# Altium schematic symbol library STM32_Watch.SCHLIB: 53 symbols
Pins are listed as number, name and electrical type; pins without a type are passive.

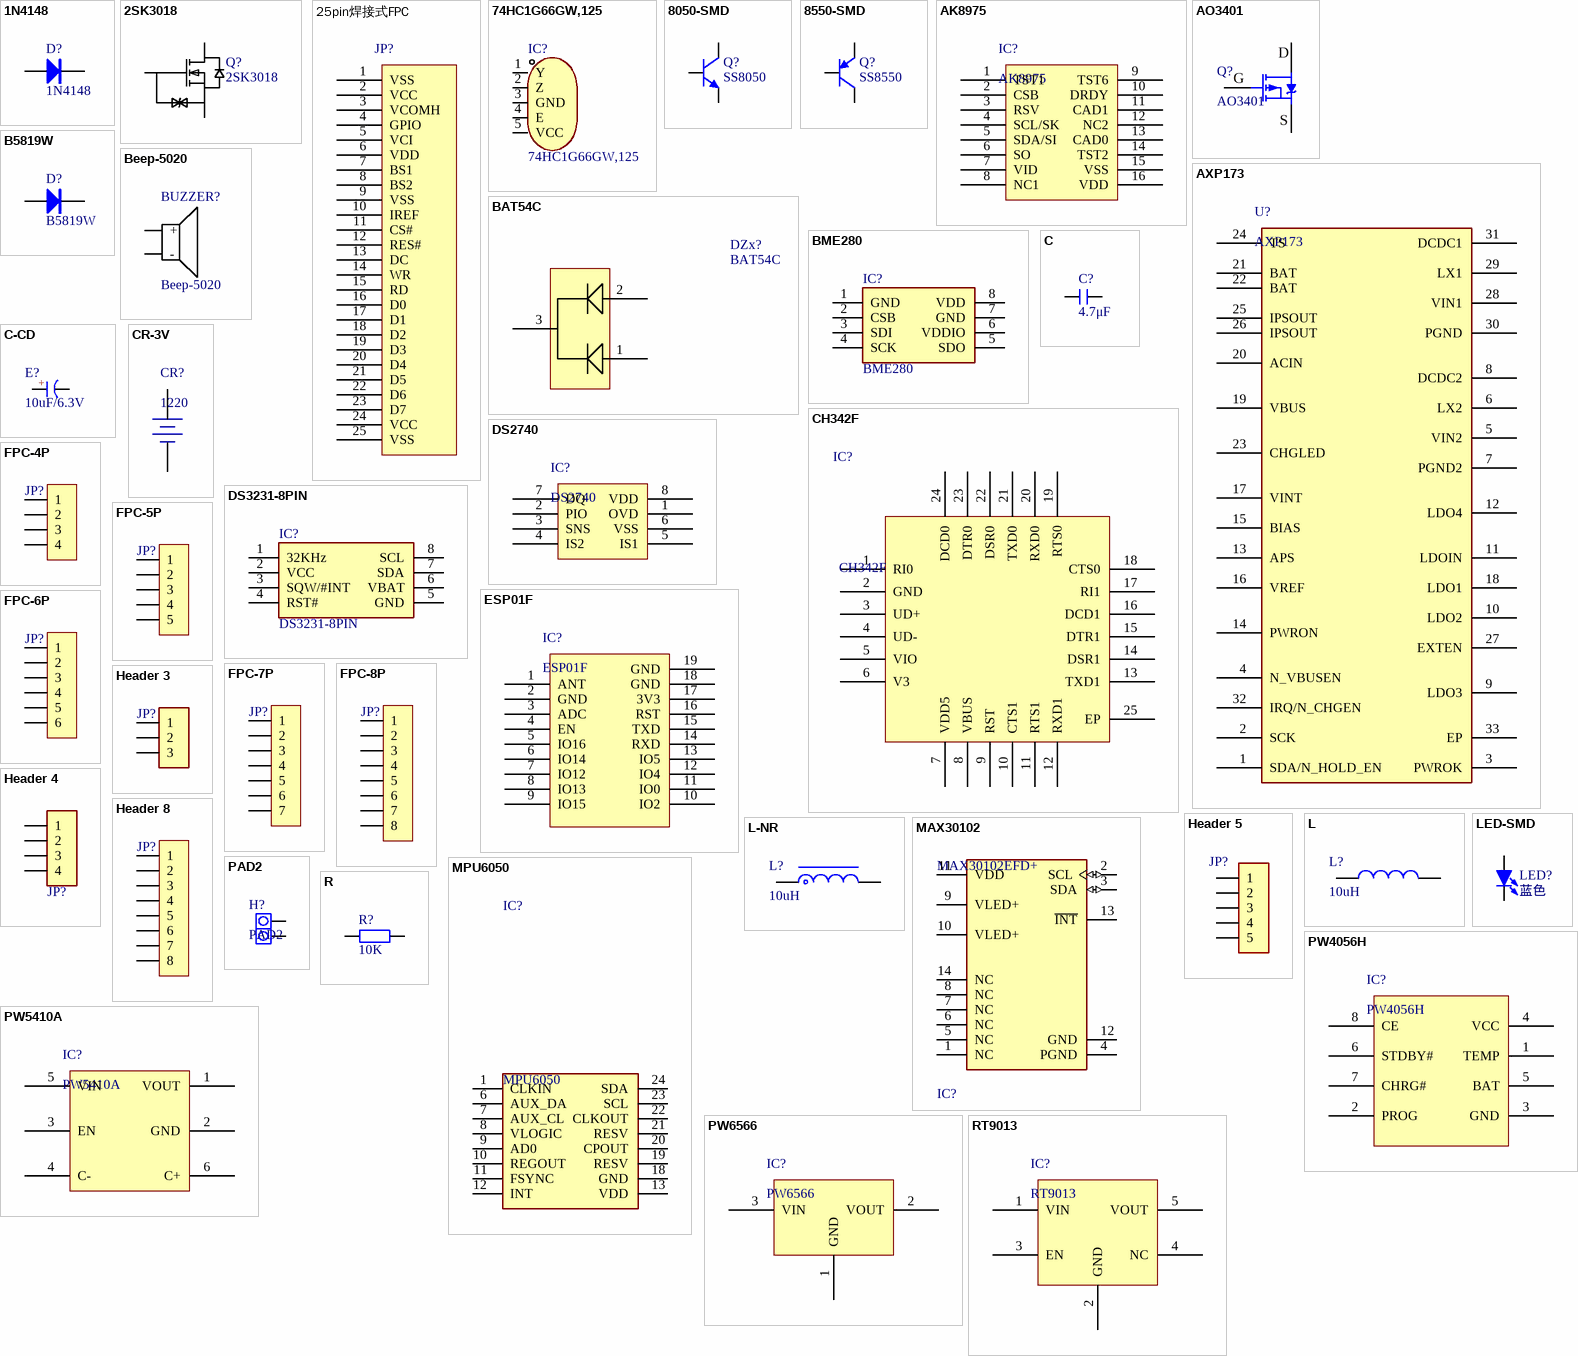
[diagram p0: symbols 1N4148 to RT9013]

## 1N4148
designator D?
高速开关二极管; 版权归属: 源创客; BOM名称: 高速开关二极管; 学习资源: www.ooocke.com
footprint DO-35 (1.8*6.8mm(直径，脚距）)
footprint MINI_MELF (LL34) (1.5*3.4mm(直径，脚距）)
footprint SOD-323 (1.8x1.3X0.9mm（长宽高，不包括引脚）)
footprint DO-35V (1.8*2.5mm(直径，脚距）)
footprint SOD-123 (2.7x1.6X1.1mm（长宽高，不包括引脚）)
footprint SOD-123F (2.7x1.6X1.1mm（长宽高，不包括引脚）)
pins: 1 A, 2 K

## 2SK3018
designator Q?
类型:-;漏源电压(Vdss):-;连续漏极电流(Id):-;功率(Pd):-;导通电阻(RDS(on)@Vgs,Id):-;阈值电压(Vgs(th)@Id):-;栅极电荷(Qg@Vgs):-;输入电容(Ciss@Vds):-;反向传输电容(Crss@Vds):-;; Manufacturer: TWGMC(台湾迪嘉); Symbol: 2SK3018_C727148; Add into BOM: yes; Device: 2SK3018; LCSC Part Name: 2SK3018; Supplier Part: C727148; Manufacturer Part: 2SK3018; Supplier Footprint: SOT-23; JLCPCB Part Class: Extended Part; Datasheet: https://atta.szlcsc.com/upload/public/pdf/source/20200827/C727148_2301BBDB89FCE642A4A39ABEF7075607.pdf; Supplier: LCSC; Convert to PCB: yes; Type: -; Drain Source Voltage (Vdss): -; Continuous Drain Current (Id): -; Power Dissipation (Pd): -; Drain Source On Resistance (RDS(on)@Vgs,Id): -; Gate Threshold Voltage (Vgs(th)@Id): -; Total Gate Charge (Qg@Vgs): -; Input Capacitance (Ciss@Vds): -; Reverse Transfer Capacitance (Crss@Vds): -
footprint SOT23-3L (3x1.3x1mm(长宽高))
pins: 1 G, 2 S, 3 D

## 25pin焊接式FPC
designator JP?
25pin焊接式FPC
footprint 25pin焊接式FPC
pins: 1 VSS, 2 VCC, 3 VCOMH, 4 GPIO, 5 VCI, 6 VDD, 7 BS1, 8 BS2, 9 VSS, 10 IREF, 11 CS#, 12 RES#, 13 DC, 14 WR, 15 RD, 16 D0, 17 D1, 18 D2, 19 D3, 20 D4, 21 D5, 22 D6, 23 D7, 24 VCC, 25 VSS

## 74HC1G66GW,125
designator IC?
逻辑类型:SPST-NO;额外特性:-;; Manufacturer: Nexperia(安世); Add into BOM: yes; Number of Circuits/Elements: 1; Symbol: 74HC1G66GW,125; Device: 74HC1G66GW,125; LCSC Part Name: 74HC1G66GW,125; Supplier Part: C18566; Manufacturer Part: 74HC1G66GW,125; Supplier Footprint: SOT-353; JLCPCB Part Class: Extended Part; Datasheet: https://atta.szlcsc.com/upload/public/pdf/source/20160918/1474166836525.pdf; Supplier: LCSC; Convert to PCB: yes; Series: -; Logic Type: SPST-NO; Number of Inputs/Bits per Element: -; Voltage - Supply: -; Features: -
footprint SOT-353_L2.2-W1.4-P0.65-LS2.4-BR
pins: 1 Y, 2 Z, 3 GND, 4 E, 5 VCC

## 8050-SMD
designator Q?, comment SS8050
高频放大-NPN型; 版权归属: 源创客; 属性: 40V 1.5A 1W 100MHZ; BOM名称: 高频放大-NPN型; 学习资源: www.ooocke.com
footprint SOT23-3N (3x1.3x1mm(长宽高))
footprint SOT23-3L (3x1.3x1mm(长宽高))
footprint SOT23-3M (3x1.3x1mm(长宽高))
pins: 1 B, 2 E, 3 C

## 8550-SMD
designator Q?, comment SS8550
高频放大-PNP型; 版权归属: 源创客; 属性: 40V 1.5A 1W 100MHZ; BOM名称: 高频放大-PNP型; 学习资源: www.ooocke.com
footprint SOT23-3N (3x1.3x1mm(长宽高))
footprint SOT23-3L (3x1.3x1mm(长宽高))
footprint SOT23-3M (3x1.3x1mm(长宽高))
pins: 1 B, 2 E, 3 C

## AK8975
designator IC?
采用高灵敏度霍尔传感器技术的三轴电子罗盘IC。 / 最适合步行城市导航，用于手机和其他便携式设备
footprint QFN16 4x4_L (16脚，长x宽x高：4x4x0.8mm，脚距：0.65mm)
footprint QFN16 4x4_M (16脚，长x宽x高：4x4x0.8mm，脚距：0.65mm)
footprint QFN16 4x4_N (16脚，长x宽x高：4x4x0.8mm，脚距：0.65mm)
pins: 1 TST1, 2 CSB, 3 RSV, 4 SCL/SK, 5 SDA/SI, 6 SO, 7 VID, 8 NC1, 9 TST6, 10 DRDY, 11 CAD1, 12 NC2, 13 CAD0, 14 TST2, 15 VSS, 16 VDD

## AO3401
designator Q?
P沟道场效应管; 版权归属: 源创客; BOM名称: P沟道场效应管; 学习资源: www.ooocke.com
footprint SOT23-3N (3x1.3x1mm(长宽高))
footprint SOT23-3L (3x1.3x1mm(长宽高))
footprint SOT23-3M (3x1.3x1mm(长宽高))
pins: 1 G, 2 S, 3 D

## AXP173
designator U?
智能PMIC
footprint QFN32 5x5_L (32脚，长x宽x高：5x5x0.95mm，脚距：0.5mm)
pins: 1 SDA/N_HOLD_EN, 2 SCK, 3 PWROK, 4 N_VBUSEN, 5 VIN2, 6 LX2, 7 PGND2, 8 DCDC2, 9 LDO3, 10 LDO2, 11 LDOIN, 12 LDO4, 13 APS, 14 PWRON, 15 BIAS, 16 VREF, 17 VINT, 18 LDO1, 19 VBUS, 20 ACIN, 21 BAT, 22 BAT, 23 CHGLED, 24 TS, 25 IPSOUT, 26 IPSOUT, 27 EXTEN, 28 VIN1, 29 LX1, 30 PGND, 31 DCDC1, 32 IRQ/N_CHGEN, 33 EP

## B5819W
designator D?
肖特基二极管; BOM名称: 高速开关二极管; 版权归属: 源创客; 学习资源: www.ooocke.com
footprint DO-35 (1.8*6.8mm(直径，脚距）)
footprint MINI_MELF (LL34) (1.5*3.4mm(直径，脚距）)
footprint SOD-323 (1.8x1.3X0.9mm（长宽高，不包括引脚）)
footprint DO-35V (1.8*2.5mm(直径，脚距）)
footprint SOD-123 (2.7x1.6X1.1mm（长宽高，不包括引脚）)
footprint SOD-123F (2.7x1.6X1.1mm（长宽高，不包括引脚）)
pins: 1 A, 2 K

## BAT54C
designator DZx?
双肖特基，共阴极
footprint SOT23-3N (3x1.3x1mm(长宽高))
pins: 1, 2, 3

## Beep-5020
designator BUZZER?
贴片蜂鸣器5020最小封装
footprint 5020BUZZER
pins: 1 +, 2 -

## BME280
designator IC?
气压，湿度，温度传感器
footprint BME280
pins: 1 GND, 2 CSB, 3 SDI, 4 SCK, 5 SDO, 6 VDDIO, 7 GND, 8 VDD

## C
designator C?, comment 4.7μF
无极性贴片电容; 版权归属: 源创客; BOM名称: 无极性贴片电容; 学习资源: www.ooocke.com
footprint C 0201_L (无极性贴片电容)
footprint C 0402_L (无极性贴片电容)
footprint C 0603_L (无极性贴片电容)
footprint C 0805_L (无极性贴片电容)
footprint C 1206_L (无极性贴片电容)
footprint C 1210_L (无极性贴片电容)
footprint C 1808_L (无极性贴片电容)
footprint C 1812_L (无极性贴片电容)
footprint C 1825_L (无极性贴片电容)
footprint C 2225_L (无极性贴片电容)
footprint C 0201_M (无极性贴片电容)
footprint C 0402_M (无极性贴片电容)
footprint C 0603_M (无极性贴片电容)
footprint C 0805_M (无极性贴片电容)
footprint C 1206_M (无极性贴片电容)
footprint C 1210_M (无极性贴片电容)
footprint C 1808_M (无极性贴片电容)
footprint C 1812_M (无极性贴片电容)
footprint C 1825_M (无极性贴片电容)
footprint C 2225_M (无极性贴片电容)
pins: 1, 2

## C-CD
designator E?, comment 10uF/6.3V
贴片钽电容; 版权归属: 源创客; BOM名称: 贴片钽电容; 学习资源: www.ooocke.com
footprint CD A(3216) (长3.2mm，宽1.6mm，厚1.6mm)
footprint CD B(3528) (长3.5mm，宽2.8mm，厚1.9mm)
footprint CD C(6032) (长6.0mm，宽3.2mm，厚2.5mm)
footprint CD D(7343) (长7.3mm，宽4.3mm，厚2.8mm)
footprint CD E(7343H) (长7.3mm，宽4.3mm，厚4.0mm)
footprint CD S(2012) (长2.0mm，宽1.25mm，厚1.2mm)
pins: 1 A, 2 K
text: +

## CH342F
designator IC?
类型:-;协议类别:-;驱动器/接收器数:-;数据速率:-;; Manufacturer: WCH(南京沁恒); Symbol: CH342F; Device: CH342F; LCSC Part Name: CH342F; Supplier Part: C968586; Manufacturer Part: CH342F
footprint QFN24 (4mm*4mm（蒜米工坊）)
pins: 1 RI0, 2 GND, 3 UD+, 4 UD-, 5 VIO, 6 V3, 7 VDD5, 8 VBUS, 9 RST, 10 CTS1, 11 RTS1, 12 RXD1, 13 TXD1, 14 DSR1, 15 DTR1, 16 DCD1, 17 RI1, 18 CTS0, 19 RTS0, 20 RXD0, 21 TXD0, 22 DSR0, 23 DTR0, 24 DCD0, 25 EP

## CR-3V
designator CR?, comment 1220
微型电池; 版权归属: 源创客; BOM名称: 微型电池; 学习资源: www.ooocke.com
footprint CR1220_A (纽扣电池座)
footprint CR1220_B (纽扣电池座)
footprint ML621FE (可充电纽扣电池)
footprint CR2032_A (纽扣电池座)
footprint CR2032_B (纽扣电池座)
pins: 1 DC+, 2 DC-

## DS2740
designator IC?
高精度库仑计
footprint MSOP8_L (塑封体长3mm，宽3mm，脚距0.65)
pins: 1 OVD, 2 PIO, 3 SNS, 4 IS2, 5 IS1, 6 VSS, 7 DQ, 8 VDD

## DS3231-8PIN
designator IC?
时钟芯片
footprint SOP8_N (5*6*1.8mm（长宽高）)
pins: 1 32KHz, 2 VCC, 3 SQW/#INT, 4 RST#, 5 GND, 6 VBAT, 7 SDA, 8 SCL

## ESP01F
designator IC?
ESP-01F WiFi 模块是由安信可科技开发的，该模块核心处理器 ESP8285 在较小尺寸封装中集成了业界领先的 Tensilica L106 超低功耗 32 位微型 MCU，带有 16 位精简模式，主频支持 80 MHz 和 160 MH，支持 RTOS，集成 Wi-Fi MAC/BB/RF/PA/LNA。ESP-01F WiFi 模块支持标准的 IEEE802.11 b/g/n 协议，完整的 TCP/IP 协议栈。用户可以使用该模块为现有的设备添加联网功能，也可以构建独立的网络控制器
footprint ESP-01F
pins: 1 ANT, 2 GND, 3 ADC, 4 EN, 5 IO16, 6 IO14, 7 IO12, 8 IO13, 9 IO15, 10 IO2, 11 IO0, 12 IO4, 13 IO5, 14 RXD, 15 TXD, 16 RST, 17 3V3, 18 GND, 19 GND

## FPC-4P
designator JP?, comment FPC1.0-4P  (value not drawn)
FPC连接器; 版权归属: 源创客; BOM名称: FPC连接器; 学习资源: www.ooocke.com
footprint FPC0.5 2H-WS-4P (长：6.2mm，宽：5.2mm，高：2mm)
footprint FPC1.0-2H-WS-4P (翻盖FPC，脚距1mm，不含脚（长8.9mm，宽5.2mm，高1.96mm）)
pins: 1, 2, 3, 4

## FPC-5P
designator JP?, comment FPC1.0-5P  (value not drawn)
FPC连接器; 版权归属: 源创客; BOM名称: FPC连接器; 学习资源: www.ooocke.com
footprint FPC0.5 2H-WS-5P (长：6.7mm，宽：5.2mm，高：2mm)
footprint FPC1.0-2H-WS-5P (翻盖FPC，脚距1mm，不含脚（长9.9mm，宽5.2mm，高1.96mm）)
pins: 1, 2, 3, 4, 5

## FPC-6P
designator JP?, comment FPC1.0-6P  (value not drawn)
FPC连接器; 版权归属: 源创客; BOM名称: FPC连接器; 学习资源: www.ooocke.com
footprint FPC0.5 2H-WS-6P (长：7.2mm，宽：5.2mm，高：2mm)
footprint FPC1.0-2H-WS-6P (翻盖FPC，脚距1mm，不含脚（长10.9mm，宽5.2mm，高1.96mm）)
pins: 1, 2, 3, 4, 5, 6

## FPC-7P
designator JP?, comment FPC1.0-7P  (value not drawn)
FPC连接器; 版权归属: 源创客; BOM名称: FPC连接器; 学习资源: www.ooocke.com
footprint FPC0.5 2H-WS-7P (长：7.7mm，宽：5.2mm，高：2mm)
footprint FPC1.0-2H-WS-7P (翻盖FPC，脚距1mm，不含脚（长11.9mm，宽5.2mm，高1.96mm）)
pins: 1, 2, 3, 4, 5, 6, 7

## FPC-8P
designator JP?, comment FPC1.0-8P  (value not drawn)
FPC连接器; 版权归属: 源创客; BOM名称: FPC连接器; 学习资源: www.ooocke.com
footprint FPC0.5 2H-WS-8P (长：8.2mm，宽：5.2mm，高：2mm)
footprint FPC1.0-2H-WS-8P (翻盖FPC，脚距1mm，不含脚（长12.9mm，宽5.2mm，高1.96mm）)
pins: 1, 2, 3, 4, 5, 6, 7, 8

## Header 3
designator JP?, comment HDR-1X3  (value not drawn)
3P接插件; 版权归属: 源创客; BOM名称: 3P接插件; 学习资源: www.ooocke.com
footprint XH2.54-WI-3P (接插件，3P)
footprint XH2.54-LI-3P (接插件，3P)
footprint HDR2.54-LI-3P (排针，3脚)
footprint HDR2.54-M-LI-3P (排母，3脚)
footprint HDR2.54-WI-3P (弯脚排针，3脚)
footprint HDR2.54-WS-3P (3P卧式贴片排针2.54)
footprint HDR2.54-Y-LI-3P (圆孔排母，3脚)
footprint HDR2.54-M-WS-3P (3P卧式贴片排母2.54)
footprint KF2510-LI-3P (接插件/2A)
footprint XH2.54-WS-3P (长：12.5mm，宽：8mm，高：6.1mm)
footprint XH2.54-LS-3P (长：12.5mm，宽：6mm，高：8.3mm)
footprint KF2EDGK-2.54-LI-3P (长：9.52mm，宽：8.1mm，高：10.1mm)
footprint KF2EDGK-2.54-WI-3P (长：9.52mm，宽：10.1mm，高：8.1mm)
footprint HDR2.54-3P
footprint TEST_POINT_3 (封装底层3个测试点)
pins: 1, 2, 3

## Header 4
designator JP?, comment HDR-1X4  (value not drawn)
4P接插件; 版权归属: 源创客; BOM名称: 4P接插件; 学习资源: www.ooocke.com
footprint XH2.54-WI-4P (接插件，4P)
footprint XH2.54-LI-4P (接插件，4P)
footprint HDR2.54-LI-4P (排针，4脚)
footprint HDR2.54-M-LI-4P (排母，4脚)
footprint HDR2.54-WI-4P (弯脚排针，4脚)
footprint HDR2.54-WS-4P (4P卧式贴片排针2.54)
footprint HDR2.54-Y-LI-4P (圆孔排母，4脚)
footprint HDR2.54-M-WS-4P (4P卧式贴片排母2.54)
footprint KF2510-LI-4P (接插件/2A)
footprint XH2.54-WS-4P (长：15mm，宽：8mm，高：6.1mm)
footprint XH2.54-LS-4P (长：15mm，宽：6mm，高：8.3mm)
footprint KF2EDGK-2.54-LI-4P (长：12.06mm，宽：8.1mm，高：10.1mm)
footprint KF2EDGK-2.54-WI-4P (长：12.06mm，宽：10.1mm，高：8.1mm)
pins: 1, 2, 3, 4

## Header 5
designator JP?, comment HDR-1X5  (value not drawn)
5P接插件; 版权归属: 源创客; BOM名称: 5P接插件; 学习资源: www.ooocke.com
footprint XH2.54-WI-5P (接插件，5P)
footprint XH2.54-LI-5P (接插件，5P)
footprint HDR2.54-LI-5P (排针，5脚)
footprint HDR2.54-M-LI-5P (排母，5脚)
footprint HDR2.54-WI-5P (弯脚排针，5脚)
footprint HDR2.54-WS-5P (5P卧式贴片排针2.54)
footprint HDR2.54-Y-LI-5P (圆孔排母，5脚)
footprint HDR2.54-M-WS-5P (5P卧式贴片排母2.54)
footprint KF2510-LI-5P (接插件/2A)
footprint XH2.54-WS-5P (长：17.5mm，宽：8mm，高：6.1mm)
footprint XH2.54-LS-5P (长：17.5mm，宽：6mm，高：8.3mm)
footprint KF2EDGK-2.54-LI-5P (长：14.6mm，宽：8.1mm，高：10.1mm)
footprint KF2EDGK-2.54-WI-5P (长：14.6mm，宽：10.1mm，高：8.1mm)
footprint TEST_POINT_5 (封装顶层5个测试点)
pins: 1, 2, 3, 4, 5

## Header 8
designator JP?, comment HDR-1X8  (value not drawn)
8P接插件; 版权归属: 源创客; BOM名称: 8P接插件; 学习资源: www.ooocke.com
footprint XH2.54-WI-8P (接插件，8P)
footprint XH2.54-LI-8P (接插件，8P)
footprint HDR2.54-LI-8P (排针，8脚)
footprint HDR2.54-M-LI-8P (排母，8脚)
footprint HDR2.54-WI-8P (弯脚排针，8脚)
footprint HDR2.54-WS-8P (8P卧式贴片排针2.54)
footprint HDR2.54-Y-LI-8P (圆孔排母，8脚)
footprint HDR2.54-M-WS-8P (8P卧式贴片排母2.54)
footprint KF2510-LI-8P (接插件/2A)
footprint XH2.54-WS-8P (长：25mm，宽：8mm，高：6.1mm)
footprint XH2.54-LS-8P (长：25mm，宽：6mm，高：8.3mm)
footprint KF2EDGK-2.54-LI-8P (长：22.22mm，宽：8.1mm，高：10.1mm)
footprint KF2EDGK-2.54-WI-8P (长：22.22mm，宽：10.1mm，高：8.1mm)
pins: 1, 2, 3, 4, 5, 6, 7, 8

## L
designator L?, comment 10uH
小功率贴片电感; 版权归属: 源创客; BOM名称: 小功率贴片电感; 学习资源: www.ooocke.com
footprint L 0402 (小功率贴片电感)
footprint L 0603 (小功率贴片电感)
footprint L 0805 (小功率贴片电感)
footprint L 1206 (小功率贴片电感)
footprint L 1210 (小功率贴片电感)
footprint L 1806 (小功率贴片电感)
footprint L 1812 (小功率贴片电感)
pins: 1, 2

## L-NR
designator L?, comment 10uH
NR磁胶电感; 版权归属: 源创客; BOM名称: NR磁胶电感; 学习资源: www.ooocke.com
footprint NR2520 (2.5mm*2.0mm*1.0mm(长*宽*高）)
footprint NR3010 (3.0mm*3.0mm*1.0mm(长*宽*高）)
footprint NR3012 (3.0mm*3.0mm*1.2mm(长*宽*高）)
footprint NR3015 (3.0mm*3.0mm*1.5mm(长*宽*高）)
footprint NR4010 (4.0mm*4.0mm*1.0mm(长*宽*高）)
footprint NR4018 (4.0mm*4.0mm*1.8mm(长*宽*高）)
footprint NR4020 (4.0mm*4.0mm*2.0mm(长*宽*高）)
footprint NR4026 (4.0mm*4.0mm*2.6mm(长*宽*高）)
footprint NR4030 (4.0mm*4.0mm*3.0mm(长*宽*高）)
footprint NR5012 (5.0mm*5.0mm*1.2mm(长*宽*高）)
footprint NR5020 (5.0mm*5.0mm*2.0mm(长*宽*高）)
footprint NR5040 (5.0mm*5.0mm*4.0mm(长*宽*高）)
footprint NR6020 (6.0mm*6.0mm*2.0mm(长*宽*高）)
footprint NR6028 (6.0mm*6.0mm*2.8mm(长*宽*高）)
footprint NR6045 (6.0mm*6.0mm*4.5mm(长*宽*高）)
footprint NR8040 (8.0mm*8.0mm*4.0mm(长*宽*高）)
pins: 1, 2

## LED-SMD
designator LED?, comment 蓝色
贴片LED; 版权归属: 源创客; BOM名称: 贴片LED; 学习资源: www.ooocke.com
footprint LED 0603W (白色0603LED)
footprint LED 0603R (红色0603LED)
footprint LED 0603B (蓝色0603LED)
footprint LED 0603G (绿色0603LED)
footprint LED 0603Y (黄色0603LED)
footprint LED 0805G (绿色0805LED)
footprint LED 0805R (红色0805LED)
footprint LED 0805B (蓝色0805LED)
footprint LED 0805Y (黄色0805LED)
footprint LED 3528-2Pin (2脚，3528LED)
footprint LED 1206G (绿色1206LED)
footprint LED 5730-V (紫色5730LED)
footprint LED 1206Y (黄色1206LED)
footprint LED 0805W (白色0805LED)
footprint LED 1206B (蓝色1206LED)
footprint LED 1206W (白色1206LED)
footprint LED 1206R (红色1206LED)
pins: 1 A, 2 K

## MAX30102
designator IC?, comment MAX30102EFD+
IC SENSOR OXIMETER/HEARTRATE; Manufacturer: Maxim Integrated; Max Junction Temp: +90°C; Min Supply Voltage: 1.7V; Sensor Output: I2C; Operating Supply Current: 600uA; Max Supply Voltage: 2V; Package: F143A5-1; Manufacturer Part Number: MAX30102EFD+; Footprint Url: https://pdfserv.maximintegrated.com/land_patterns/90-0602.PDF; ComponentLink2URL: https://datasheets.maximintegrated.com/en/ds/MAX30102.pdf; Temperature: -40°C to +85°C; Device Class L2: unset; Mouser Description: Pulse Oximeter/Heart Rate Sensor, Oesip; Temperature Range High: +85°C; Automotive: No; Height: 1.65mm; Digikey Description: IC SENSOR OXIMETER/HEARTRATE; Category: IC; Lead Free: Yes; RoHS: TRUE; Temperature Range Low: -40°C; ComponentLink2Description: Datasheet; Octopart: https://octopart.com/max30102efd%2B-maxim+integrated-59568799; Device Class L3: unset; Device Class L1: Sensors
footprint FP-F143A5-1-MFG
pins: 1 NC, 2 SCL (io), 3 SDA (io), 4 PGND (power), 5 NC, 6 NC, 7 NC, 8 NC, 9 VLED+ (power), 10 VLED+ (power), 11 VDD (power), 12 GND (power), 13 ~{INT} (oc), 14 NC

## MPU6050
designator IC?
陀螺仪
footprint QFN24 4x4_M (24脚，长x宽x高：4x4x1mm，脚距：0.5mm)
footprint QFN24 4x4_N (24脚，长x宽x高：4x4x1mm，脚距：0.5mm)
pins: 1 CLKIN, 6 AUX_DA, 7 AUX_CL, 8 VLOGIC, 9 AD0, 10 REGOUT, 11 FSYNC, 12 INT, 13 VDD, 18 GND, 19 RESV, 20 CPOUT, 21 RESV, 22 CLKOUT, 23 SCL, 24 SDA

## PAD2
designator H?
引线焊盘; 版权归属: 源创客; BOM名称: 引线焊盘; 学习资源: www.ooocke.com
footprint CHARGE_PAD
pins: +, -

## PW4056H
designator IC?
PW4056H 是一款完整的采用恒定电流/恒定电压的高压、大电流、单节鲤离子电池线性充电IC，最高耐压可达 28V，6.5V 自动过压保护，充电电流可达 1A。
footprint SOT23-6 (SOT-23/SC-74A; 5 Leads; Body 3.1 x 3 mm, inc. leads (LxW max))
pins: 1 TEMP, 2 PROG, 3 GND, 4 VCC, 5 BAT, 6 STDBY#, 7 CHRG#, 8 CE

## PW5410A
designator IC?
低噪声，恒频 1.2MHZ，输入电压范围2.7v-5v，5v固定输出电压，输出电流250mA的DCDC升压
footprint SOT23-6 (SOT-23/SC-74A; 5 Leads; Body 3.1 x 3 mm, inc. leads (LxW max))
pins: 1 VOUT, 2 GND, 3 EN, 4 C-, 5 VIN, 6 C+

## PW6566
designator IC?
PW6566 系列是使用 CMOS 技术开发的低压差，高精度 输出电压，低消耗电流正电压型电压稳压器
footprint SOT23-3L (3x1.3x1mm(长宽高))
pins: 1 GND, 2 VOUT, 3 VIN

## R
designator R?, comment 10K
贴片电阻; 版权归属: 源创客; BOM名称: 贴片电阻; 学习资源: www.ooocke.com
footprint R 0201_L (1/20W贴片电阻)
footprint R 0402_L (1/16W贴片电阻)
footprint R 0603_L (1/10W贴片电阻)
footprint R 0805_L (1/8W贴片电阻)
footprint R 1206_L (1/4W贴片电阻)
footprint R 1210_L (1/3W贴片电阻)
footprint R 1812_L (1/2W贴片电阻)
footprint R 2010_L (3/4W贴片电阻)
footprint R 2512_L (1W贴片电阻)
footprint R 0201_M (1/20W贴片电阻)
footprint R 0402_M (1/16W贴片电阻)
footprint R 0603_M (1/10W贴片电阻)
footprint R 0805_M (1/8W贴片电阻)
footprint R 1206_M (1/4W贴片电阻)
footprint R 1210_M (1/3W贴片电阻)
footprint R 1812_M (1/2W贴片电阻)
footprint R 2010_M (3/4W贴片电阻)
footprint R 2512_M (1W贴片电阻)
pins: 1, 2

## RT9013
designator IC?
RT9013是一款超低噪声、超低压差、超快速响应稳压器。它采用SOT23-5 (2.7mm X 1.4mm)/SC70-5( 1 8mm X 1.15mm )/DFN-6L( 2mm X 2mm )三种封装
pins: 1 VIN, 2 GND, 3 EN, 4 NC, 5 VOUT

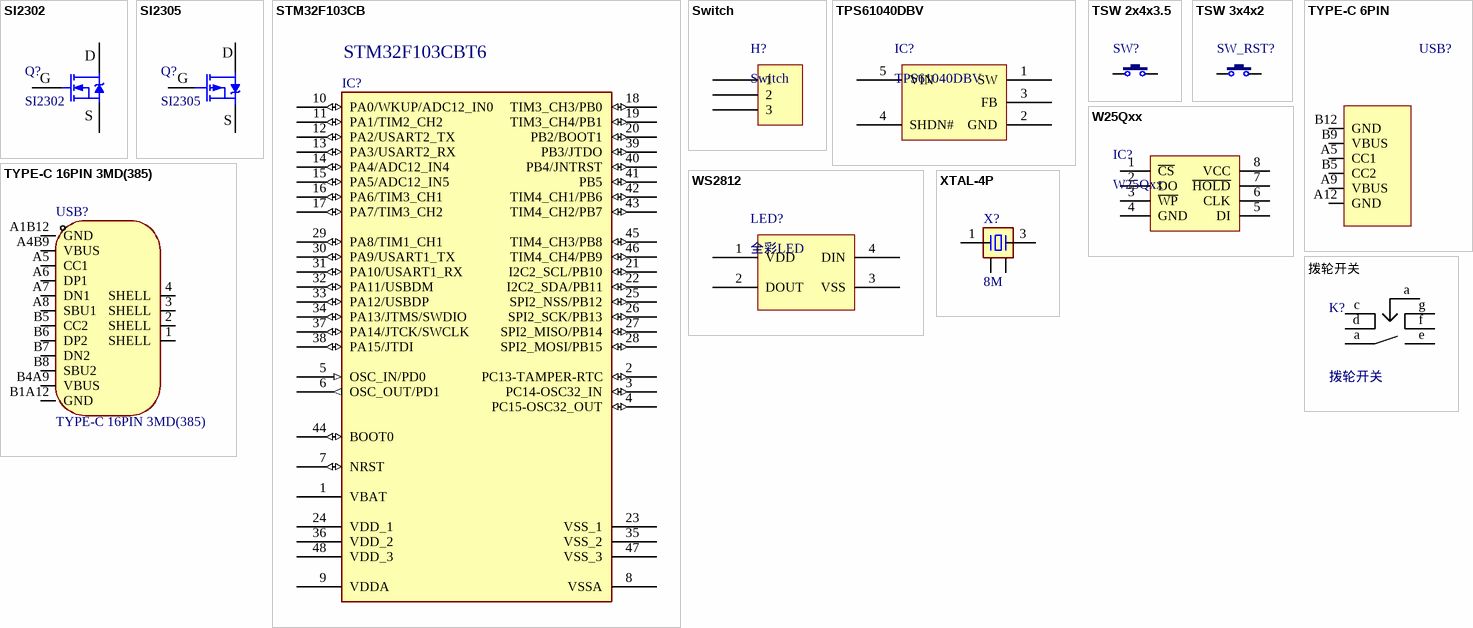
[diagram p1: symbols SI2302 to 拨轮开关]

## SI2302
designator Q?
N沟道场效应管; 版权归属: 源创客; BOM名称: N沟道场效应管; 学习资源: www.ooocke.com
footprint SOT23-3N (3x1.3x1mm(长宽高))
footprint SOT23-3L (3x1.3x1mm(长宽高))
footprint SOT23-3M (3x1.3x1mm(长宽高))
pins: 1 G, 2 S, 3 D

## SI2305
designator Q?
P沟道场效应管; 版权归属: 源创客; BOM名称: P沟道场效应管; 学习资源: www.ooocke.com
footprint SOT23-3N (3x1.3x1mm(长宽高))
footprint SOT23-3L (3x1.3x1mm(长宽高))
footprint SOT23-3M (3x1.3x1mm(长宽高))
pins: 1 G, 2 S, 3 D

## STM32F103CB
designator IC?, comment STM32F103CBT6
Flash:128/RAM:20/IO:48; BOM名称: 32位STM单片机; 版权归属: 源创客; 学习资源: www.ooocke.com
footprint LQFP48 7X7_M (48脚，体宽7x7mm，脚距0.5mm)
pins: 1 VBAT (power), 2 PC13-TAMPER-RTC (io), 3 PC14-OSC32_IN (io), 4 PC15-OSC32_OUT (io), 5 OSC_IN/PD0 (in), 6 OSC_OUT/PD1 (out), 7 NRST (io), 8 VSSA (power), 9 VDDA (power), 10 PA0/WKUP/ADC12_IN0 (io), 11 PA1/TIM2_CH2 (io), 12 PA2/USART2_TX (io), 13 PA3/USART2_RX (io), 14 PA4/ADC12_IN4 (io), 15 PA5/ADC12_IN5 (io), 16 PA6/TIM3_CH1 (io), 17 PA7/TIM3_CH2 (io), 18 TIM3_CH3/PB0 (io), 19 TIM3_CH4/PB1 (io), 20 PB2/BOOT1 (io), 21 I2C2_SCL/PB10 (io), 22 I2C2_SDA/PB11 (io), 23 VSS_1 (power), 24 VDD_1 (power), 25 SPI2_NSS/PB12 (io), 26 SPI2_SCK/PB13 (io), 27 SPI2_MISO/PB14 (io), 28 SPI2_MOSI/PB15 (io), 29 PA8/TIM1_CH1 (io), 30 PA9/USART1_TX (io), 31 PA10/USART1_RX (io), 32 PA11/USBDM (io), 33 PA12/USBDP (io), 34 PA13/JTMS/SWDIO (io), 35 VSS_2 (power), 36 VDD_2 (power), 37 PA14/JTCK/SWCLK (io), 38 PA15/JTDI (io), 39 PB3/JTDO (io), 40 PB4/JNTRST (io), 41 PB5 (io), 42 TIM4_CH1/PB6 (io), 43 TIM4_CH2/PB7 (io), 44 BOOT0 (io), 45 TIM4_CH3/PB8 (io), 46 TIM4_CH4/PB9 (io), 47 VSS_3 (power), 48 VDD_3 (power)

## Switch
designator H?
由2个贴片电阻焊盘合并得到的，用于切换电路
footprint Switch
pins: 1, 2, 3

## TPS61040DBV
designator IC?
28V、400mA 开关升压转换器，适用于 LCD 和白光 LED
footprint SOT23-5L (3x1.6x1.1mm(长宽高))
pins: 1 SW, 2 GND, 3 FB, 4 SHDN#, 5 VIN

## TSW 2x4x3.5
designator SW?, comment 3  (value not drawn)
2x4x3.5轻触开关; 版权归属: 源创客; BOM名称: 2x4x3.5轻触开关; 学习资源: www.ooocke.com
footprint KEY-SMD_UK-B0264-SP25Y
pins: 1, 2

## TSW 3x4x2
designator SW_RST?, comment 3x4x2  (value not drawn)
3x4x2开关; 版权归属: 源创客; BOM名称: 3x4x2开关; 学习资源: www.ooocke.com
footprint SW-SMD_L4.0-W3.0-LS4.6
pins: 1, 2

## TYPE-C 6PIN
designator USB?, comment 918-418K2023S40006  (value not drawn)
连接器类型:Type-C;标准:USB 3.1;公母:母座;触点数量:6;端口数量:1;安装方式:卧贴;额定电流 - 电源:-;工作温度范围:-40℃~+85℃;; Manufacturer: 精拓金; Add into BOM: yes; Connector Type: Type-C; Gender: 母座; Number of Contacts: 6; Number of Ports: 1; Symbol: 918-418K2023S40006; Device: 918-418K2023S40006; LCSC Part Name: Type-C 母座 卧贴 无弹单排LCP黑胶; Supplier Part: C399925; Manufacturer Part: 918-418K2023S40006; Supplier Footprint: SMD; JLCPCB Part Class: Extended Part; Datasheet: https://atta.szlcsc.com/upload/public/pdf/source/20190620/C399925_D8B78B8101E8027AE7B71A8976357F30.pdf; Supplier: LCSC; Convert to PCB: yes; Standard: USB 3.1; Mounting Style: 卧贴; Current Rating - Power (Max): -; Operating Temperature Range: -40℃~+85℃
footprint USB-C-SMD_918-418K2023S40006
pins: A5 CC1, A9 VBUS, A12 GND, B5 CC2, B9 VBUS, B12 GND

## TYPE-C 16PIN 3MD(385)
designator USB?
连接器类型:Type-C;标准:-;公母:母座;触点数量:16;端口数量:1;安装方式:卧贴;额定电流 - 电源:3A;工作温度范围:-40℃~+85℃;; Manufacturer: SHOU HAN(首韩); Add into BOM: yes; Gender: 母座; Number of Contacts: 16; Number of Ports: 1; Current Rating - Power (Max): 3A; Symbol: TYPE-C 16PIN 3MD(385); Device: TYPE-C 16PIN 3MD(385); LCSC Part Name: Type-C 母座 卧贴; Supplier Part: C2858270; Manufacturer Part: TYPE-C 16PIN 3MD(385); Supplier Footprint: SMD; JLCPCB Part Class: Extended Part; Datasheet: https://atta.szlcsc.com/upload/public/pdf/source/20210728/C2858270_8CC81AF68E5F7ED0622FE1183F819D00.pdf; Supplier: LCSC; Convert to PCB: yes; Connector Type: Type-C; Standard: -; Mounting Style: 卧贴; Operating Temperature Range: -40℃~+85℃
footprint USB-C-SMD_HC-TYPE-C-16P-CB1.6
pins: 1 SHELL, 2 SHELL, 3 SHELL, 4 SHELL, A1B12 GND, A4B9 VBUS, A5 CC1, A6 DP1, A7 DN1, A8 SBU1, B1A12 GND, B4A9 VBUS, B5 CC2, B6 DP2, B7 DN2, B8 SBU2

## W25Qxx
designator IC?
外置Flash; 版权归属: 源创客; BOM名称: 外置Flash; 学习资源: www.ooocke.com
footprint SOP8W_N (5.3*8.3*1.8mm（长宽高）)
footprint SOP8W_L (5.3*8.3*1.8mm（长宽高）)
footprint SOP8W_M (5.3*8.3*1.8mm（长宽高）)
pins: 1 ~{CS}, 2 DO, 3 ~{WP}, 4 GND, 5 DI, 6 CLK, 7 ~{HOLD}, 8 VCC

## WS2812
designator LED?, comment 全彩LED
footprint WS2812
pins: 1 VDD, 2 DOUT, 3 VSS, 4 DIN

## XTAL-4P
designator X?, comment 8M
4脚无源晶振; 版权归属: 源创客; BOM名称: 4脚无源晶振; 学习资源: www.ooocke.com
footprint OSC 1612-4P (1.6*1.2*0.35mm（长宽高）)
footprint OSC 2025-4P (2*2.5*0.55mm(长宽高))
footprint OSC 3225-4P (3.2*2.5*0.7mm(长宽高))
footprint OSC 4025-4P (4*2.5*0.7mm(长宽高))
footprint OSC 5032-4P (5mm*3.2mm*0.8mm(长*宽*高))
footprint OSC 6035-4P (6mm*3.5mm*1mm(长*宽*高))
footprint OSC 7050-4P (7mm*5mm*1.3mm(长*宽*高))
footprint OSC 8045-4P (8mm*4.5mm*1.6mm(长*宽*高))
footprint OSC 8045-4P-C (8mm*4.5mm*1.8mm(长*宽*高))
pins: 1, 2, 3, 4

## 拨轮开关
designator K?
footprint 拨轮开关
pins: a, a, c, d, e, f, g